# EAGLE library part ADAFRUIT-ULTIMATE-GPS (library SDSURocket-BreakoutBoards)
Adafruit Ultimate GPS Breakout Version 3 Layout for the Adafruit Ultimate GPS Breakout board. Product ID: 746 <http://www.adafruit.com/product/746>
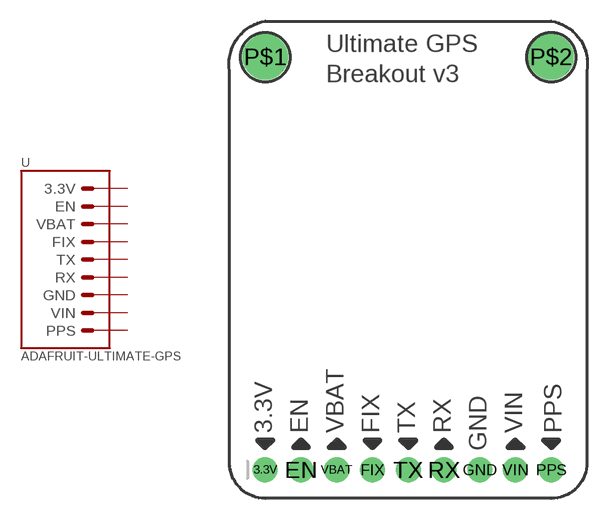
[diagram p1: symbol with the pads of ADAFRUIT-ULTIMATE-GPS; footprint ADAFRUIT-ULTIMATE-GPS]

Designator prefix -

## ADAFRUIT-ULTIMATE-GPS-BREAKOUT  [ADAFRUIT-ULTIMATE-GPS]
3.3V  3.3V
EN  EN  in
FIX  FIX  out
GND  GND  pwr
PPS  PPS  out
RX  RX  in
TX  TX  out
VBAT  VBAT
VIN  VIN  pwr

## Footprint ADAFRUIT-ULTIMATE-GPS (pad centres in mm)
Adafruit Ultimate GPS Breakout Version 3 Layout for the Adafruit Ultimate GPS Breakout board. Product ID: 746 <http://www.adafruit.com/product/746>
drill 1 pad 1.778: 3.3V -10.16,-14.931; EN -7.62,-14.931; FIX -2.54,-14.931; GND 5.08,-14.931; PPS 10.16,-14.931; RX 2.54,-14.931; TX 0,-14.931; VBAT -5.08,-14.931; VIN 7.62,-14.931
drill 2.2 pad 3: P$1 -10.16,14.406; P$2 10.16,14.406